# Altium schematic symbol library MyLib.SchLib: 18 symbols
Pins are listed as number, name and electrical type; pins without a type are passive.

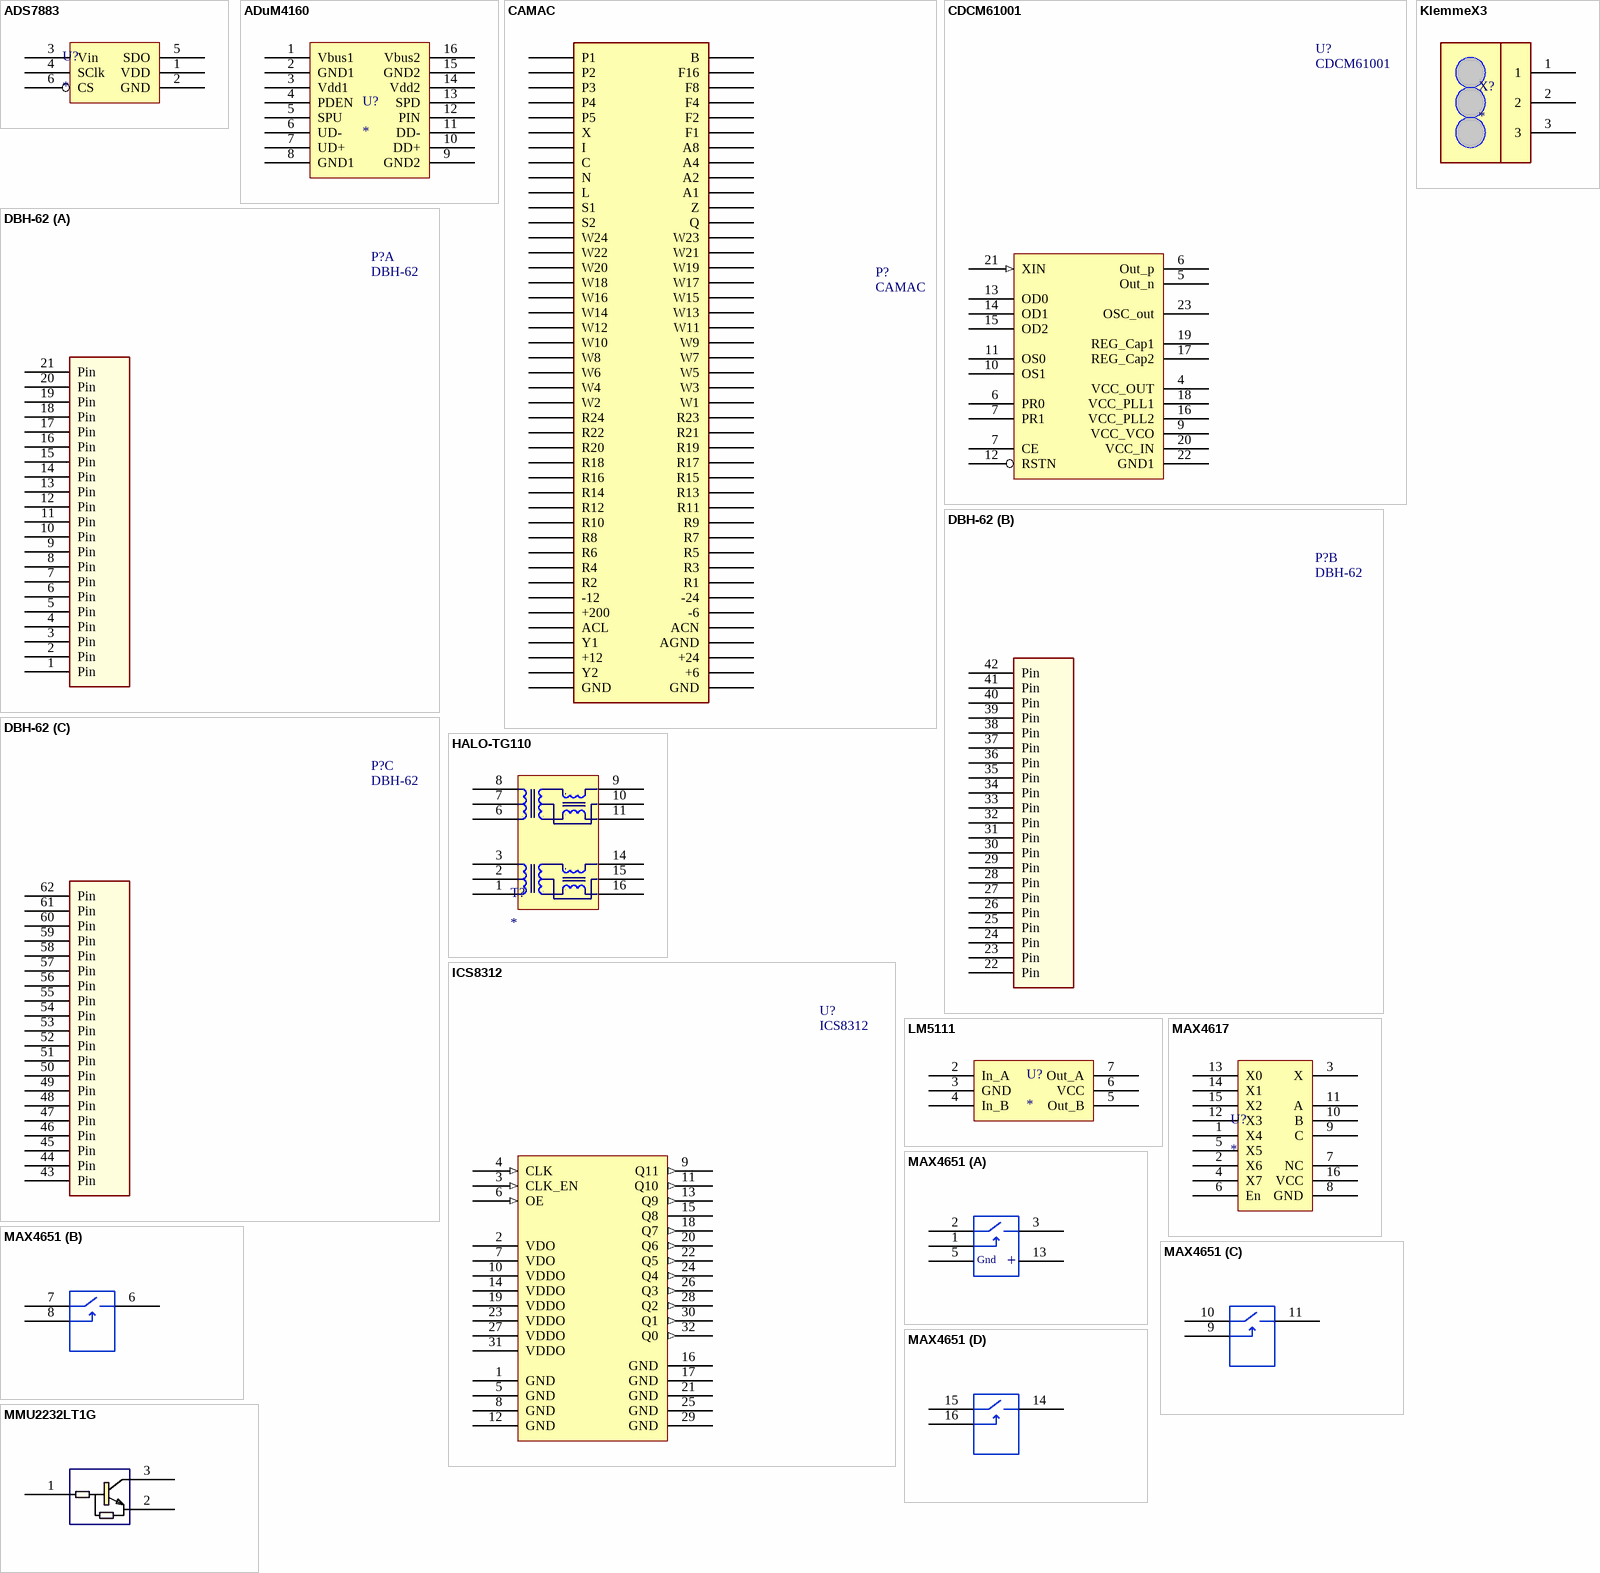
[diagram p0: symbols ADS7883 to MMU2232LT1G]

## ADS7883
designator U?
12-BIT, 3-MSPS, ANALOG-TO-DIGITAL CONVERTER
footprint SOT23-6 (SOT-457/SC-74; 6 Leads; Body 3 x 3 mm, inc. leads (LxW max))
pins: 1 VDD, 2 GND, 3 Vin, 4 SClk, 5 SDO, 6 CS

## ADuM4160
designator U?
footprint SOIC127P1030-16BN (SOIC, 16-Leads, Body 12.8x7.5mm, Pitch 1.27mm, IPC Medium Density)
pins: 1 Vbus1, 2 GND1, 3 Vdd1, 4 PDEN, 5 SPU, 6 UD-, 7 UD+, 8 GND1, 9 GND2, 10 DD+, 11 DD-, 12 PIN, 13 SPD, 14 Vdd2, 15 GND2, 16 Vbus2

## CAMAC
designator P?
CAMAC module; Published: 8-Jun-2000; LatestRevisionDate: 17-Jul-2002; LatestRevisionNote: Re-released for DXP Platform.; PackageReference: SMB; Publisher: Altium Limited; PackageDescription: DO-214-AA/SMB; 2 C-Bend Leads; Body 5.3 x 3.6 mm, inc. leads (LxW); Code_JEDEC: DO-214-AA
footprint CAMAC (CAMAC module footprint (Imperial))
pins: +6, +12, +24, +200, -6, -12, -24, A1, A2, A4, A8, ACL, ACN, AGND, B, C, F1, F2, F4, F8, F16, GND1 GND, GND2 GND, I, L, N, P1, P2, P3, P4, P5, Q, R1, R2, R3, R4, R5, R6, R7, R8, R9, R10, R11, R12, R13, R14, R15, R16, R17, R18, R19, R20, R21, R22, R23, R24, S1, S2, W1, W2, W3, W4, W5, W6, W7, W8, W9, W10, W11, W12, W13, W14, W15, W16, W17, W18, W19, W20, W21, W22, W23, W24, X, Y1, Y2, Z

## CDCM61001
designator U?
Low-Jitter Clock Generator; Published: 8-Jun-2000; LatestRevisionDate: 17-Jul-2002; LatestRevisionNote: Re-released for DXP Platform.; PackageReference: SMB; Publisher: Altium Limited; PackageDescription: DO-214-AA/SMB; 2 C-Bend Leads; Body 5.3 x 3.6 mm, inc. leads (LxW); Code_JEDEC: DO-214-AA
footprint QFN50P500X500-32VBN (32-Pin Plastic Quad Flat No-Lead 0.5 mm Pitch)
pins: 4 VCC_OUT (power), 5 Out_n, 6 PR0, 6 Out_p, 7 CE, 7 PR1, 9 VCC_VCO (power), 10 OS1, 11 OS0, 12 RSTN, 13 OD0, 14 OD1, 15 OD2, 16 VCC_PLL2 (power), 17 REG_Cap2, 18 VCC_PLL1 (power), 19 REG_Cap1, 20 VCC_IN (power), 21 XIN (in), 22 GND1 (power), 23 OSC_out

## DBH-62
designator P?
Published: 8-Jun-2000; LatestRevisionDate: 17-Jul-2002; LatestRevisionNote: Re-released for DXP Platform.; PackageReference: SMB; Publisher: Altium Limited; PackageDescription: DO-214-AA/SMB; 2 C-Bend Leads; Body 5.3 x 3.6 mm, inc. leads (LxW); Code_JEDEC: DO-214-AA
footprint DBH-62F
part A pins: 1 Pin, 2 Pin, 3 Pin, 4 Pin, 5 Pin, 6 Pin, 7 Pin, 8 Pin, 9 Pin, 10 Pin, 11 Pin, 12 Pin, 13 Pin, 14 Pin, 15 Pin, 16 Pin, 17 Pin, 18 Pin, 19 Pin, 20 Pin, 21 Pin
part B pins: 22 Pin, 23 Pin, 24 Pin, 25 Pin, 26 Pin, 27 Pin, 28 Pin, 29 Pin, 30 Pin, 31 Pin, 32 Pin, 33 Pin, 34 Pin, 35 Pin, 36 Pin, 37 Pin, 38 Pin, 39 Pin, 40 Pin, 41 Pin, 42 Pin
part C pins: 43 Pin, 44 Pin, 45 Pin, 46 Pin, 47 Pin, 48 Pin, 49 Pin, 50 Pin, 51 Pin, 52 Pin, 53 Pin, 54 Pin, 55 Pin, 56 Pin, 57 Pin, 58 Pin, 59 Pin, 60 Pin, 61 Pin, 62 Pin

## HALO-TG110
designator T?
ULTRA™Series, 16 Pin SOIC  10/100BASE-TX Magnetic Modules
footprint SOIC127P602-16BN (SOIC, 16-Leads, Body 9.9x3.9mm, Pitch 1.27mm, IPC Medium Density)
pins: 1 IO1.1, 2 IO1.2, 3 IO1.3, 4 NC hidden, 5 NC hidden, 6 IO2.1, 7 IO2.2, 8 IO2.3, 9 IO2.3, 10 IO2.2, 11 IO2.1, 12 NC hidden, 13 NC hidden, 14 IO1.3, 15 IO1.2, 16 IO1.1

## ICS8312
designator U?
ICS8312 Fan Out buffers; Published: 8-Jun-2000; LatestRevisionDate: 17-Jul-2002; LatestRevisionNote: Re-released for DXP Platform.; PackageReference: SMB; Publisher: Altium Limited; PackageDescription: DO-214-AA/SMB; 2 C-Bend Leads; Body 5.3 x 3.6 mm, inc. leads (LxW); Code_JEDEC: DO-214-AA
footprint QFP80P900X900-32N (32-Pin Quad Flat Pack 0.8 mm Pitch)
pins: 1 GND (power), 2 VDO (power) "Core supply pin", 3 CLK_EN (in), 4 CLK (in), 5 GND (power), 6 OE (in), 7 VDO (power) "Core supply pin", 8 GND (power), 9 Q11 (out), 10 VDDO (power) "Output supply pin", 11 Q10 (out), 12 GND (power), 13 Q9 (out), 14 VDDO (power) "Output supply pin", 15 Q8, 16 GND (power), 17 GND (power), 18 Q7 (out), 19 VDDO (power) "Output supply pin", 20 Q6 (out), 21 GND (power), 22 Q5 (out), 23 VDDO (power) "Output supply pin", 24 Q4 (out), 25 GND (power), 26 Q3 (out), 27 VDDO (power) "Output supply pin", 28 Q2 (out), 29 GND (power), 30 Q1 (out), 31 VDDO (power) "Output supply pin", 32 Q0 (out)

## KlemmeX3
designator X?
footprint KlemmeX3 (15mmX9mm (5mm pad step))
pins: 1, 2, 3

## LM5111
designator U?
footprint SOIC127P600-8N (SOIC, 8-Leads, Body 4.9x3.9mm, Pitch 1.27mm, IPC Medium Density)
pins: 2 In_A, 3 GND, 4 In_B, 5 Out_B, 6 VCC, 7 Out_A

## MAX4617
designator U?
High-Speed, Low-Voltage, CMOS Analog  Multiplexers/Switches
footprint SOIC16_N (Footprint not found)
pins: 1 X4, 2 X6, 3 X, 4 X7, 5 X5, 6 En, 7 NC, 8 GND, 9 C, 10 B, 11 A, 12 X3, 13 X0, 14 X1, 15 X2, 16 VCC

## MAX4651
designator U?
Published: 1.02.2013; LatestRevisionDate: 17-Jul-2002; LatestRevisionNote: Re-released for DXP Platform.; PackageReference: SOIC 16; Publisher: Altium Limited; PackageDescription: SOIC, 16-Leads, Body 9.9x3.9mm, Pitch 1.27mm, IPC Medium Density; Code_JEDEC: DO-214-AA
footprint SOIC127P600-16N (SOIC, 16-Leads, Body 9.9x3.9mm, Pitch 1.27mm, IPC Medium Density)
part A pins: 1 4, 2 3, 3 0, 5 1 (power), 13 2 (power)
part B pins: 6, 7 3, 8 4
part C pins: 9 4, 10 3, 11 6
part D pins: 14 6, 15 3, 16 4
part A text: Gnd; +

## MMU2232LT1G
designator U?
MMU2232LT1G in SOT23-3 package; Published: 8-Jun-2000; LatestRevisionDate: 17-Jul-2002; LatestRevisionNote: Re-released for DXP Platform.; PackageReference: SMB; Publisher: Altium Limited; PackageDescription: DO-214-AA/SMB; 2 C-Bend Leads; Body 5.3 x 3.6 mm, inc. leads (LxW); Code_JEDEC: DO-214-AA
footprint SOT23-3 (SOT-23; 3 Leads; Body 3.0 x 2.5 mm, inc. leads (LxW max))
pins: 1 B, 2 E, 3 C

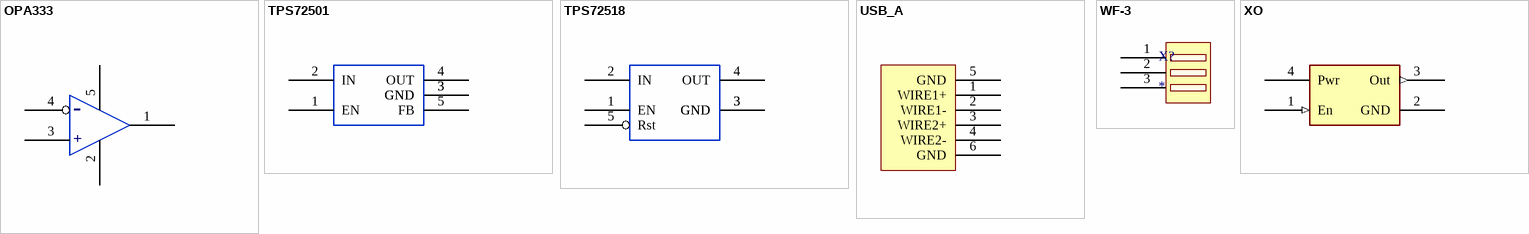
[diagram p1: symbols OPA333 to XO]

## OPA333
designator U?
Schottky Diode; Published: 8-Jun-2000; LatestRevisionDate: 17-Jul-2002; LatestRevisionNote: Re-released for DXP Platform.; PackageReference: SMB; Publisher: Altium Limited; PackageDescription: DO-214-AA/SMB; 2 C-Bend Leads; Body 5.3 x 3.6 mm, inc. leads (LxW); Code_JEDEC: DO-214-AA
footprint SOT23-5 (SOT-23/SC-74A; 5 Leads; Body 3 x 3 mm, inc. leads (LxW max))
pins: 1 0, 2 4 (power), 3 2, 4 1, 5 3 (power)
text: -; +

## TPS72501
designator U?
Published: 31.01.2013; LatestRevisionDate: 17-Jul-2002; LatestRevisionNote: Released for DXP Platform.; PackageReference: SOT223-5; Publisher: Altium Limited; PackageDescription: Body 6.5x3.5mm, Pitch 1.27mm, Lead Span 7mm, IPC Medium Density
footprint SOT223-6N (SOT223, 6-Leads, Body 6.5x3.5mm, Pitch 1.27mm, Lead Span 7mm, IPC Medium Density)
pins: 1 EN, 2 IN (power), 3 GND (power) hidden, 3 GND (power) hidden, 4 OUT (power), 5 FB

## TPS72518
designator U?
TPS72501; Published: 31.01.2012; LatestRevisionDate: 17-Jul-2002; LatestRevisionNote: Released for DXP Platform.; PackageReference: SOT223-5; Publisher: Altium Limited; PackageDescription: Body 6.5x3.5mm, Pitch 1.27mm, Lead Span 7mm, IPC Medium Density
footprint SOT223-6N (SOT223, 6-Leads, Body 6.5x3.5mm, Pitch 1.27mm, Lead Span 7mm, IPC Medium Density)
pins: 1 EN, 2 IN (power), 3 GND (power) hidden, 3 GND (power) hidden, 4 OUT (power), 5 Rst

## USB_A
designator P?
Connector USB A; Published: 8-Jun-2000; LatestRevisionDate: 17-Jul-2002; LatestRevisionNote: Re-released for DXP Platform.; PackageReference: SMB; Publisher: Altium Limited; PackageDescription: DO-214-AA/SMB; 2 C-Bend Leads; Body 5.3 x 3.6 mm, inc. leads (LxW); Code_JEDEC: DO-214-AA
footprint USB2.5-2H4B (Connector; USB1.1, Type A, Thru-Hole; 4 Position; Right Angle)
pins: 1 WIRE1+, 2 WIRE1-, 3 WIRE2+, 4 WIRE2-, 5 GND, 6 GND

## WF-3
designator X?
Fun connector, 2.54mm step
footprint HDR1X3
pins: 1 28, 2 29, 3 30

## XO
designator U?
XO (quartz); Published: 8-Jun-2000; LatestRevisionDate: 17-Jul-2002; LatestRevisionNote: Re-released for DXP Platform.; PackageReference: SMB; Publisher: Altium Limited; PackageDescription: DO-214-AA/SMB; 2 C-Bend Leads; Body 5.3 x 3.6 mm, inc. leads (LxW); Code_JEDEC: DO-214-AA
footprint XO_SMT (XO (quarz) footprint)
pins: 1 En (in), 2 GND (power), 3 Out (out), 4 Pwr (power)